# Altium schematic symbol library digital.SchLib: 5 symbols
Pins are listed as number, name and electrical type; pins without a type are passive.

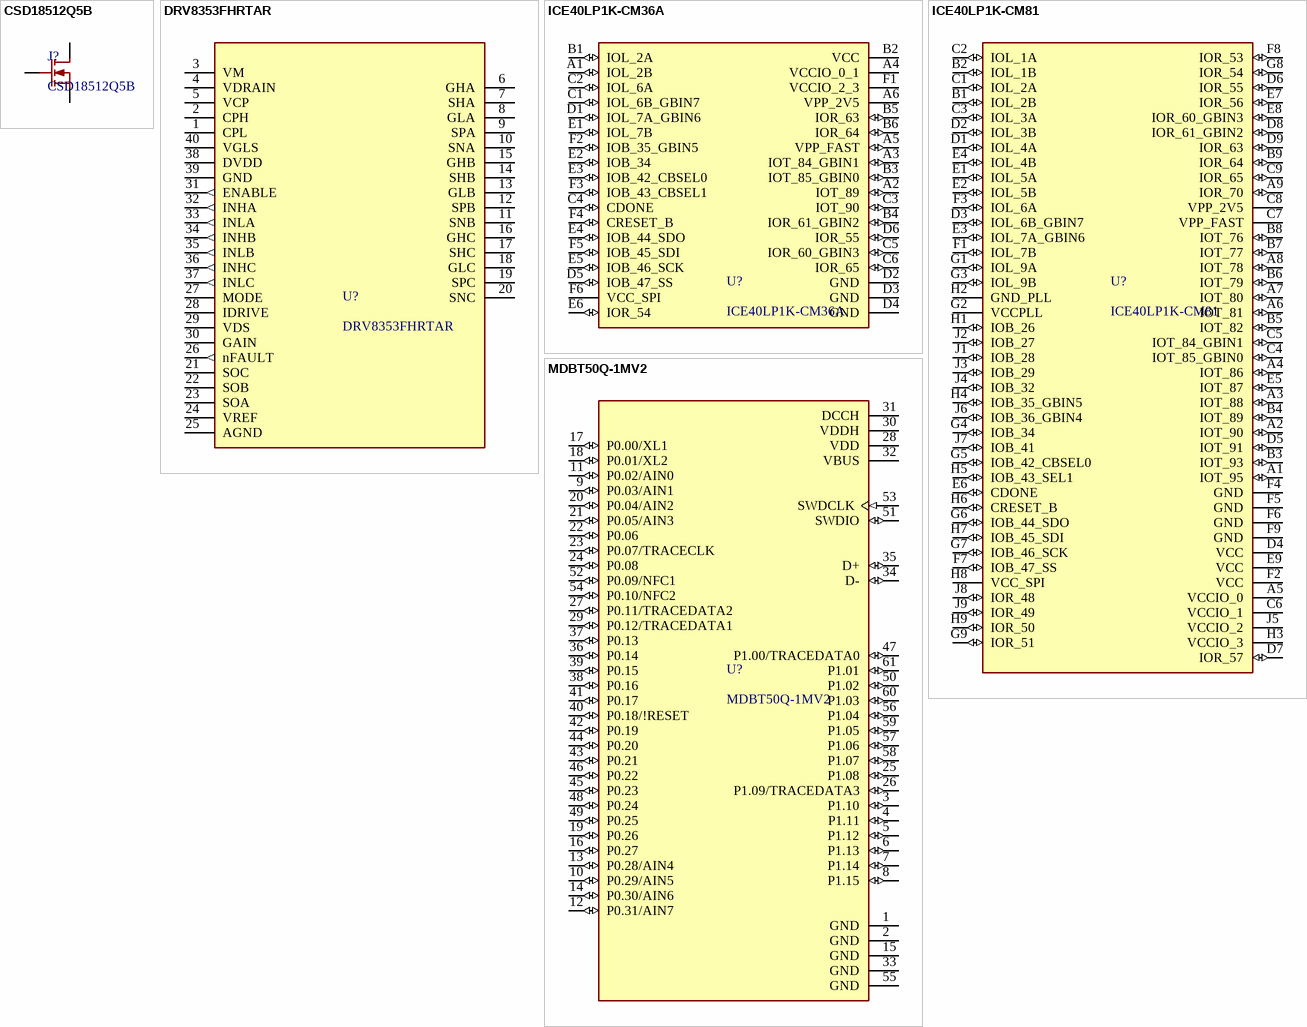
[diagram p0: symbols CSD18512Q5B to MDBT50Q-1MV2]

## CSD18512Q5B
designator J?
40 V N-channelNexFET™ powerMOSFET
pins: 1 S, 2 S, 3 S, 4 G, 5 D, 6 D, 7 D, 8 D

## DRV8353FHRTAR
designator U?
Multiphase Motor Driver Power MOSFET PWM, SPI
pins: 1 CPL (power), 2 CPH (power), 3 VM (power), 4 VDRAIN (power), 5 VCP (power), 6 GHA (power), 7 SHA (power), 8 GLA (power), 9 SPA (power), 10 SNA (power), 11 SNB (power), 12 SPB (power), 13 GLB (power), 14 SHB (power), 15 GHB (power), 16 GHC (power), 17 SHC (power), 18 GLC (power), 19 SPC (power), 20 SNC (power), 21 SOC (power), 22 SOB (power), 23 SOA (power), 24 VREF (power), 25 AGND (power), 26 nFAULT (out), 27 MODE (power), 28 IDRIVE (power), 29 VDS (power), 30 GAIN (power), 31 ENABLE (out), 32 INHA (out), 33 INLA (out), 34 INHB (out), 35 INLB (out), 36 INHC (out), 37 INLC (out), 38 DVDD (power), 39 GND (power), 40 VGLS (power)

## ICE40LP1K-CM36A
designator U?
Field Programmable Gate Array (FPGA) IC 25 65536 1280 36-VFBGA
footprint ICE40LP1K-CM36A
pins: A1 IOL_2B (io), A2 IOT_89 (io), A3 IOT_84_GBIN1 (io), A4 VCCIO_0_1 (power), A5 VPP_FAST (io), A6 VPP_2V5 (power), B1 IOL_2A (io), B2 VCC (power), B3 IOT_85_GBIN0 (io), B4 IOR_61_GBIN2 (io), B5 IOR_63 (io), B6 IOR_64 (io), C1 IOL_6B_GBIN7 (io), C2 IOL_6A (io), C3 IOT_90 (io), C4 CDONE (io), C5 IOR_60_GBIN3 (io), C6 IOR_65 (io), D1 IOL_7A_GBIN6 (io), D2 GND (power), D3 GND (power), D4 GND (power), D5 IOB_47_SS (io), D6 IOR_55 (io), E1 IOL_7B (io), E2 IOB_34 (io), E3 IOB_42_CBSEL0 (io), E4 IOB_44_SDO (io), E5 IOB_46_SCK (io), E6 IOR_54 (io), F1 VCCIO_2_3 (power), F2 IOB_35_GBIN5 (io), F3 IOB_43_CBSEL1 (io), F4 CRESET_B (io), F5 IOB_45_SDI (io), F6 VCC_SPI (power)

## ICE40LP1K-CM81
designator U?
IC FPGA 63 I/O 81UCBGA
pins: A1 IOT_95 (io), A2 IOT_90 (io), A3 IOT_88 (io), A4 IOT_86 (io), A5 VCCIO_0 (power), A6 IOT_81 (io), A7 IOT_80 (io), A8 IOT_78 (io), A9 IOR_70 (io), B1 IOL_2B (io), B2 IOL_1B (io), B3 IOT_93 (io), B4 IOT_89 (io), B5 IOT_82 (io), B6 IOT_79 (io), B7 IOT_77 (io), B8 IOT_76 (io), B9 IOR_64 (io), C1 IOL_2A (io), C2 IOL_1A (io), C3 IOL_3A (io), C4 IOT_85_GBIN0 (io), C5 IOT_84_GBIN1 (io), C6 VCCIO_1 (power), C7 VPP_FAST (power), C8 VPP_2V5 (power), C9 IOR_65 (io), D1 IOL_4A (io), D2 IOL_3B (io), D3 IOL_6B_GBIN7 (io), D4 VCC (power), D5 IOT_91 (io), D6 IOR_55 (io), D7 IOR_57 (io), D8 IOR_61_GBIN2 (io), D9 IOR_63 (io), E1 IOL_5A (io), E2 IOL_5B (io), E3 IOL_7A_GBIN6 (io), E4 IOL_4B (io), E5 IOT_87 (io), E6 CDONE (io), E7 IOR_56 (io), E8 IOR_60_GBIN3 (io), E9 VCC (power), F1 IOL_7B (io), F2 VCC (power), F3 IOL_6A (io), F4 GND (power), F5 GND (power), F6 GND (power), F7 IOB_47_SS (io), F8 IOR_53 (io), F9 GND (power), G1 IOL_9A (io), G2 VCCPLL (power), G3 IOL_9B (io), G4 IOB_34 (io), G5 IOB_42_CBSEL0 (io), G6 IOB_44_SDO (io), G7 IOB_46_SCK (io), G8 IOR_54 (io), G9 IOR_51 (io), H1 IOB_26 (io), H2 GND_PLL (power), H3 VCCIO_3 (power), H4 IOB_35_GBIN5 (io), H5 IOB_43_SEL1 (io), H6 CRESET_B (io), H7 IOB_45_SDI (io), H8 VCC_SPI (power), H9 IOR_50 (io), J1 IOB_28 (io), J2 IOB_27 (io), J3 IOB_29 (io), J4 IOB_32 (io), J5 VCCIO_2 (power), J6 IOB_36_GBIN4 (io), J7 IOB_41 (io), J8 IOR_48 (io), J9 IOR_49 (io)

## MDBT50Q-1MV2
designator U?
Embedded 2.4GHz transceiver support Bluetooth V5.0 and 802.15.4
footprint MDBT50Q-1MV2 (Embedded 2.4GHz transceiver support Bluetooth V5.0 and 802.15.4)
pins: 1 GND (power), 2 GND (power), 3 P1.10 (io), 4 P1.11 (io), 5 P1.12 (io), 6 P1.13 (io), 7 P1.14 (io), 8 P1.15 (io), 9 P0.03/AIN1 (io), 10 P0.29/AIN5 (io), 11 P0.02/AIN0 (io), 12 P0.31/AIN7 (io), 13 P0.28/AIN4 (io), 14 P0.30/AIN6 (io), 15 GND (power), 16 P0.27 (io), 17 P0.00/XL1 (io), 18 P0.01/XL2 (io), 19 P0.26 (io), 20 P0.04/AIN2 (io), 21 P0.05/AIN3 (io), 22 P0.06 (io), 23 P0.07/TRACECLK (io), 24 P0.08 (io), 25 P1.08 (io), 26 P1.09/TRACEDATA3 (io), 27 P0.11/TRACEDATA2 (io), 28 VDD (power), 29 P0.12/TRACEDATA1 (io), 30 VDDH (power), 31 DCCH (power), 32 VBUS (power), 33 GND (power), 34 D- (io), 35 D+ (io), 36 P0.14 (io), 37 P0.13 (io), 38 P0.16 (io), 39 P0.15 (io), 40 P0.18/!RESET (io), 41 P0.17 (io), 42 P0.19 (io), 43 P0.21 (io), 44 P0.20 (io), 45 P0.23 (io), 46 P0.22 (io), 47 P1.00/TRACEDATA0 (io), 48 P0.24 (io), 49 P0.25 (io), 50 P1.02 (io), 51 SWDIO (io), 52 P0.09/NFC1 (io), 53 SWDCLK (in), 54 P0.10/NFC2 (io), 55 GND (power), 56 P1.04 (io), 57 P1.06 (io), 58 P1.07 (io), 59 P1.05 (io), 60 P1.03 (io), 61 P1.01 (io)